# Altium footprint library P160KNPD-4FC20.PcbLib: 1 footprints
Each footprint in its own frame and in the unit in brackets; x right, y up, seen from the top. Pads: shape width x height; smd on the part's side, far side on the other; paste and mask are expansions set on the pad; w line width, h text height; cw(c..) or ccw(c..) is an arc to the next point about the centre after c.
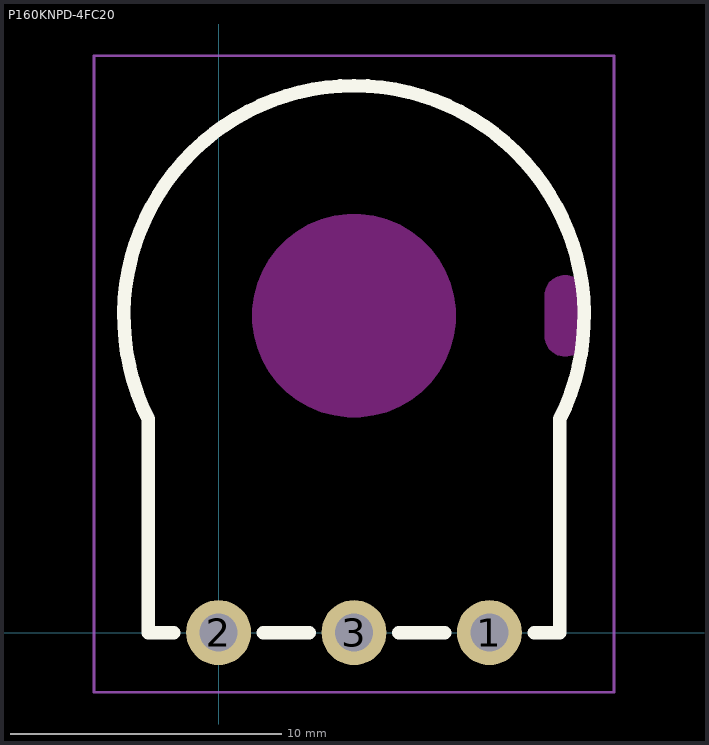
[diagram p0: the footprint, top view; thin cyan lines are the x and y axes]

## P160KNPD-4FC20 [mm]
pads (3):
  round 2.4 hole 1.4: 1(10,0) 2(0,0) 3(5,0)
Top Overlay:
  lines w0.5: -1.65,0 -2.6,0 -2.6,7.893 cw(c5,11.7) 12.6,7.893 12.6,0 11.65,0 ; 1.65,0 3.35,0 ; 6.65,0 8.35,0
Keep-Out Layer:
  board cut-out: 5,7.954 4.754,7.954 4.267,8.018 3.792,8.146 3.338,8.334 2.912,8.58 2.522,8.879 2.175,9.226 1.875,9.616 1.63,10.042 1.441,10.496 1.314,10.971 1.25,11.458 1.25,11.704 1.25,11.95 1.314,12.437 1.441,12.912 1.63,13.366 1.875,13.792 2.175,14.182 2.522,14.53 2.912,14.829 3.338,15.075 3.792,15.263 4.267,15.39 4.754,15.454 5,15.454 5.246,15.454 5.733,15.39 6.208,15.263 6.662,15.075 7.088,14.829 7.478,14.53 7.825,14.182 8.125,13.792 8.37,13.366 8.559,12.912 8.686,12.437 8.75,11.95 8.75,11.704 8.75,11.458 8.686,10.971 8.559,10.496 8.37,10.042 8.125,9.616 7.825,9.226 7.478,8.879 7.088,8.58 6.662,8.334 6.208,8.146 5.733,8.018 5.246,7.954
  board cut-out: 13.55,12.45 13.55,10.95 13.55,10.851 13.499,10.661 13.4,10.489 13.261,10.35 13.089,10.251 12.899,10.2 12.701,10.2 12.511,10.251 12.339,10.35 12.2,10.489 12.101,10.661 12.05,10.851 12.05,10.95 12.05,12.45 12.05,12.549 12.101,12.739 12.2,12.911 12.339,13.05 12.511,13.149 12.701,13.2 12.899,13.2 13.089,13.149 13.261,13.05 13.4,12.911 13.499,12.739 13.55,12.549
Top Courtyard:
  lines w0.1: -4.6,-2.2 -4.6,21.3 14.6,21.3 14.6,-2.2 0,-2.2 -4.6,-2.2
3D body "SPEOT0180.SLDPRT": height 9.6, standoff -19.9, extent -3.6,-0.5 13.6,20.285